# Altium footprint library optocoupler.PCBLIB: 37 footprints (part 1 of 3)
Each footprint in its own frame and in the unit in brackets; x right, y up, seen from the top. Pads: shape width x height; smd on the part's side, far side on the other; paste and mask are expansions set on the pad; w line width, h text height; cw(c..) or ccw(c..) is an arc to the next point about the centre after c.
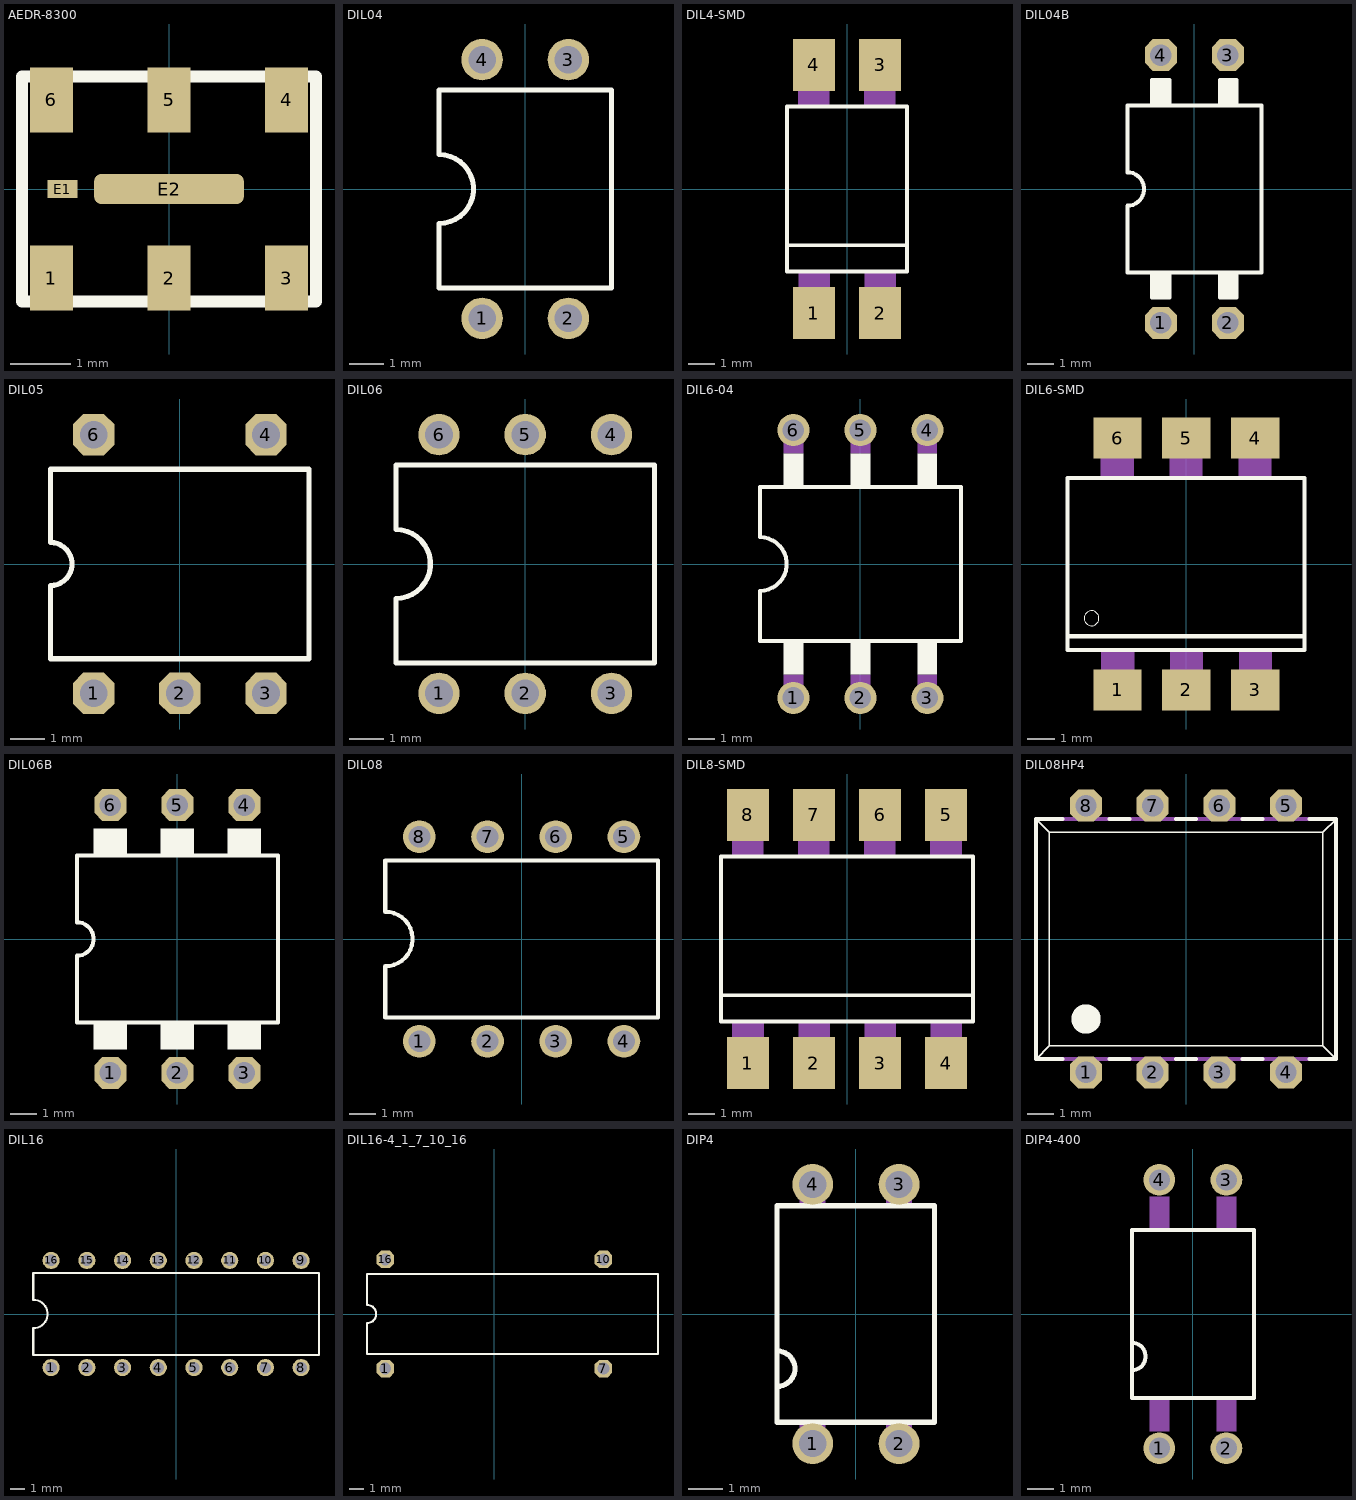
[diagram p0: the footprints below, top view; thin cyan lines are the x and y axes]

## AEDR-8300 [mm]
pads (8):
  rect 0.72x1.08 smd: 1(-1.96,-1.485) 2(0,-1.485) 3(1.96,-1.485) 4(1.96,1.485) 5(0,1.485) 6(-1.96,1.485)
  rect 0.5x0.3 smd: E1(-1.778,0)
  rrect50% 2.5x0.5 smd: E2(0,0)
Top Overlay:
  lines w0.203: -2.45,-1.875 -2.45,1.875 2.45,1.875 2.45,-1.875 -2.45,-1.875
Top Paste:
  rectangle: -0.312,-1.962 0.3,-1.675
  rectangle: -0.312,-1.312 0.3,-1.025
  rectangle: -2.273,-1.962 -1.66,-1.675
  rectangle: -2.272,-1.312 -1.66,-1.025
  rectangle: 1.647,-1.962 2.26,-1.675
  rectangle: 1.648,-1.312 2.26,-1.025
  region: 2.272,1.962 1.66,1.962 1.66,1.675 2.272,1.675
  region: 2.272,1.312 1.66,1.312 1.66,1.025 2.272,1.025
  region: 0.312,1.962 -0.3,1.962 -0.3,1.675 0.312,1.675
  region: 0.312,1.312 -0.3,1.312 -0.3,1.025 0.312,1.025
  region: -1.648,1.962 -2.26,1.962 -2.26,1.675 -1.648,1.675
  region: -1.648,1.312 -2.26,1.312 -2.26,1.025 -1.648,1.025

## DIL04 [mil]
pads (4):
  round 48 hole 32: 1(-50,-150) 2(50,-150) 3(50,150) 4(-50,150)
Top Overlay:
  lines w6: -100,-115 100,-115 100,115 -100,115 -100,40 cw(c-100,0) -100,-40 -100,-115

## DIL4-SMD [mm]
pads (4):
  rect 1.6x2 smd: 1(-1.27,-4.77) 2(1.27,-4.77) 3(1.27,4.77) 4(-1.27,4.77)
Top Overlay:
  lines w0.152: -2.315,-2.164 2.315,-2.164 ; 2.315,-2.164 2.315,3.18 -2.315,3.18 -2.315,-3.18 2.315,-3.18 2.315,-2.164
Mechanical 16:
  rectangle: -1.875,-5.15 -0.65,-3.2
  rectangle: 0.665,-5.15 1.89,-3.2
  region: 1.875,5.15 0.65,5.15 0.65,3.2 1.875,3.2
  region: -0.665,5.15 -1.89,5.15 -1.89,3.2 -0.665,3.2

## DIL04B [mil]
pads (4):
  oct 48x48 hole 32: 1(-50,-200) 2(50,-200) 3(50,200) 4(-50,200)
Top Overlay:
  rectangle: 40,-160 65,-125
  rectangle: -65,-160 -35,-125
  rectangle: -65,125 -35,165
  rectangle: 40,125 65,165
  lines w6: -63,-125 -63,-162 -37,-162 -37,-125 ; -63,-125 -100,-125 -100,-25 ccw(c-100,0) -100,25 -100,125 -63,125 ; -63,-125 -37,-125 ; -63,125 -63,163 -37,163 -37,125 ; -63,125 -37,125 ; -37,-125 38,-125 ; -37,125 38,125 ; 38,-125 38,-162 63,-162 63,-125 ; 38,-125 63,-125 ; 38,125 38,163 63,163 63,125 ; 38,125 63,125 ; 63,-125 100,-125 100,125 63,125

## DIL05 [mil]
pads (5):
  oct 48x48 hole 32: 1(-100,-150) 2(0,-150) 3(100,-150) 4(100,150) 6(-100,150)
Top Overlay:
  lines w6: -150,-110 -150,-25 ccw(c-150,0) -150,25 -150,110 150,110 150,-110 -150,-110

## DIL06 [mil]
pads (6):
  round 48 hole 32: 1(-100,-150) 2(0,-150) 3(100,-150) 4(100,150) 5(0,150) 6(-100,150)
Top Overlay:
  lines w6: -150,-115 150,-115 150,115 -150,115 -150,40 cw(c-150,0) -150,-40 -150,-115

## DIL6-04 [mil]
pads (6):
  round 48 hole 32: 1(-100,-200) 2(0,-200) 3(100,-200) 4(100,200) 5(0,200) 6(-100,200)
Top Overlay:
  rectangle: -114.76,-165.35 -85.24,-117.13
  rectangle: -14.76,-165.35 14.76,-117.13
  rectangle: 85.24,-165.35 114.76,-117.13
  region: 114.76,165.35 85.24,165.35 85.24,117.13 114.76,117.13
  region: 14.76,165.35 -14.76,165.35 -14.76,117.13 14.76,117.13
  region: -85.24,165.35 -114.76,165.35 -114.76,117.13 -85.24,117.13
  lines w6: -150,-115 150,-115 150,115 -150,115 -150,40 cw(c-150,0) -150,-40 -150,-115
Mechanical 16:
  rectangle: -114.76,-203.74 -85.24,-165.35
  rectangle: -14.76,-203.74 14.76,-165.35
  rectangle: 85.24,-203.74 114.76,-165.35
  region: 114.76,203.74 85.24,203.74 85.24,165.35 114.76,165.35
  region: 14.76,203.74 -14.76,203.74 -14.76,165.35 14.76,165.35
  region: -85.24,203.74 -114.76,203.74 -114.76,165.35 -85.24,165.35

## DIL6-SMD [mil]
pads (6):
  rect 70.08x59.84 smd: 1(-100,-182.87) 2(0,-182.87) 3(100,-182.87) 4(100,182.87) 5(0,182.87) 6(-100,182.87)
Top Overlay:
  circle w0: c-137.8,-78.74 r10.87
  lines w6: -168.7,-104.88 171.65,-104.88 ; 171.65,-104.88 171.65,125.2 -172.64,125.2 -172.64,-125.2 171.65,-125.2 171.65,-104.88
Mechanical 16:
  rectangle: -123.82,-194.88 -75.59,-125.98
  rectangle: -23.82,-194.88 24.41,-125.98
  rectangle: 76.18,-194.88 124.41,-125.98
  region: 123.82,194.88 75.59,194.88 75.59,125.98 123.82,125.98
  region: 23.82,194.88 -24.41,194.88 -24.41,125.98 23.82,125.98
  region: -76.18,194.88 -124.41,194.88 -124.41,125.98 -76.18,125.98

## DIL06B [mil]
pads (6):
  oct 48x48 hole 32: 1(-100,-200) 2(0,-200) 3(100,-200) 4(100,200) 5(0,200) 6(-100,200)
Top Overlay:
  rectangle: -25,-165 25,-125
  rectangle: 75,-165 125,-125
  rectangle: -125,-165 -75,-125
  rectangle: -125,125 -75,165
  rectangle: -25,125 25,165
  rectangle: 75,125 125,165
  lines w6: -150,-125 -150,-25 ccw(c-150,0) -150,25 -150,125 150,125 150,-125 -150,-125

## DIL08 [mil]
pads (8):
  round 48 hole 32: 1(-150,-150) 2(-50,-150) 3(50,-150) 4(150,-150) 5(150,150) 6(50,150) 7(-50,150) 8(-150,150)
Top Overlay:
  lines w6: -200,-115 200,-115 200,115 -200,115 -200,40 cw(c-200,0) -200,-40 -200,-115

## DIL8-SMD [mm]
pads (8):
  rect 1.6x2 smd: 1(-3.81,-4.77) 2(-1.27,-4.77) 3(1.27,-4.77) 4(3.81,-4.77) 5(3.81,4.77) 6(1.27,4.77) 7(-1.27,4.77) 8(-3.81,4.77)
Top Overlay:
  lines w0.152: -4.855,-2.164 4.855,-2.164 ; 4.855,-2.164 4.855,3.18 -4.855,3.18 -4.855,-3.18 4.855,-3.18 4.855,-2.164
Mechanical 16:
  rectangle: -4.415,-5.15 -3.19,-3.2
  rectangle: -1.875,-5.15 -0.65,-3.2
  rectangle: 0.665,-5.15 1.89,-3.2
  rectangle: 3.205,-5.15 4.43,-3.2
  region: 4.415,5.15 3.19,5.15 3.19,3.2 4.415,3.2
  region: 1.875,5.15 0.65,5.15 0.65,3.2 1.875,3.2
  region: -0.665,5.15 -1.89,5.15 -1.89,3.2 -0.665,3.2
  region: -3.205,5.15 -4.43,5.15 -4.43,3.2 -3.205,3.2

## DIL08HP4 [mil]
pads (8):
  oct 48x48 hole 32: 1(-150,-200) 2(-50,-200) 3(50,-200) 4(150,-200) 5(150,200) 6(50,200) 7(-50,200) 8(-150,200)
Top Overlay:
  circle w24: c-150,-120 r10
  lines w2: -225,-180 -205,-160 ; -225,180 -205,160 ; 225,-180 205,-160 ; 225,180 205,160 ; -205,-160 205,-160 ; -205,-160 -205,160 ; -205,160 205,160 ; 205,-160 205,160
  lines w6: -185,-180 -225,-180 -225,180 -185,180 ; -115,-180 -85,-180 ; -115,180 -85,180 ; -15,-180 15,-180 ; -15,180 15,180 ; 85,-180 115,-180 ; 85,180 115,180 ; 185,-180 225,-180 225,180 185,180
Mechanical 16:
  lines w6: -185,-180 -115,-180 ; -185,180 -115,180 ; -85,-180 -15,-180 ; -85,180 -15,180 ; 15,-180 85,-180 ; 15,180 85,180 ; 115,-180 185,-180 ; 115,180 185,180

## DIL16 [mil]
pads (16):
  round 48 hole 32: 1(-350,-150) 2(-250,-150) 3(-150,-150) 4(-50,-150) 5(50,-150) 6(150,-150) 7(250,-150) 8(350,-150) 9(350,150) 10(250,150) 11(150,150) 12(50,150) 13(-50,150) 14(-150,150) 15(-250,150) 16(-350,150)
Top Overlay:
  lines w6: -400,-115 400,-115 400,115 -400,115 -400,40 cw(c-400,0) -400,-40 -400,-115

## DIL16-4_1_7_10_16 [mil]
pads (4):
  oct 48x48 hole 32: 1(-300,-150) 7(300,-150) 10(300,150) 16(-300,150)
Top Overlay:
  lines w6: -350,-110 -350,-25 ccw(c-350,0) -350,25 -350,110 450,110 450,-110 -350,-110

## DIP4 [mil]
pads (4):
  round 47.25 hole 31.5: 1(-50,-150) 2(50,-150) 3(50,150) 4(-50,150)
Top Overlay:
  lines w6: -91.14,-83.86 ccw(c-91.14,-63.29) -91.14,-42.72 ; -91.14,-83.86 -91.14,-125.2 91.14,-125.2 91.14,125.2 -91.14,125.2 -91.14,-42.72 ; -91.14,-83.86 -91.14,-42.72
Mechanical 16:
  rectangle: -65,-154.53 -35,-125.98
  rectangle: 35,-154.53 65,-125.98
  region: 65,154.53 35,154.53 35,125.98 65,125.98
  region: -35,154.53 -65,154.53 -65,125.98 -35,125.98

## DIP4-400 [mil]
pads (4):
  round 47.25 hole 31.5: 1(-50,-200) 2(50,-200) 3(50,200) 4(-50,200)
Top Overlay:
  lines w6: -91.14,-83.86 ccw(c-91.14,-63.29) -91.14,-42.72 ; -91.14,-83.86 -91.14,-125.2 91.14,-125.2 91.14,125.2 -91.14,125.2 -91.14,-42.72 ; -91.14,-83.86 -91.14,-42.72
Mechanical 16:
  rectangle: -65,-175 -35,-125.98
  rectangle: 35,-175 65,-125.98
  region: 65,175 35,175 35,125.98 65,125.98
  region: -35,175 -65,175 -65,125.98 -35,125.98